# Altium footprint library Fancy.PcbLib: 140 footprints (part 8 of 9)
Each footprint in its own frame and in the unit in brackets; x right, y up, seen from the top. Pads: shape width x height; smd on the part's side, far side on the other; paste and mask are expansions set on the pad; w line width, h text height; cw(c..) or ccw(c..) is an arc to the next point about the centre after c.
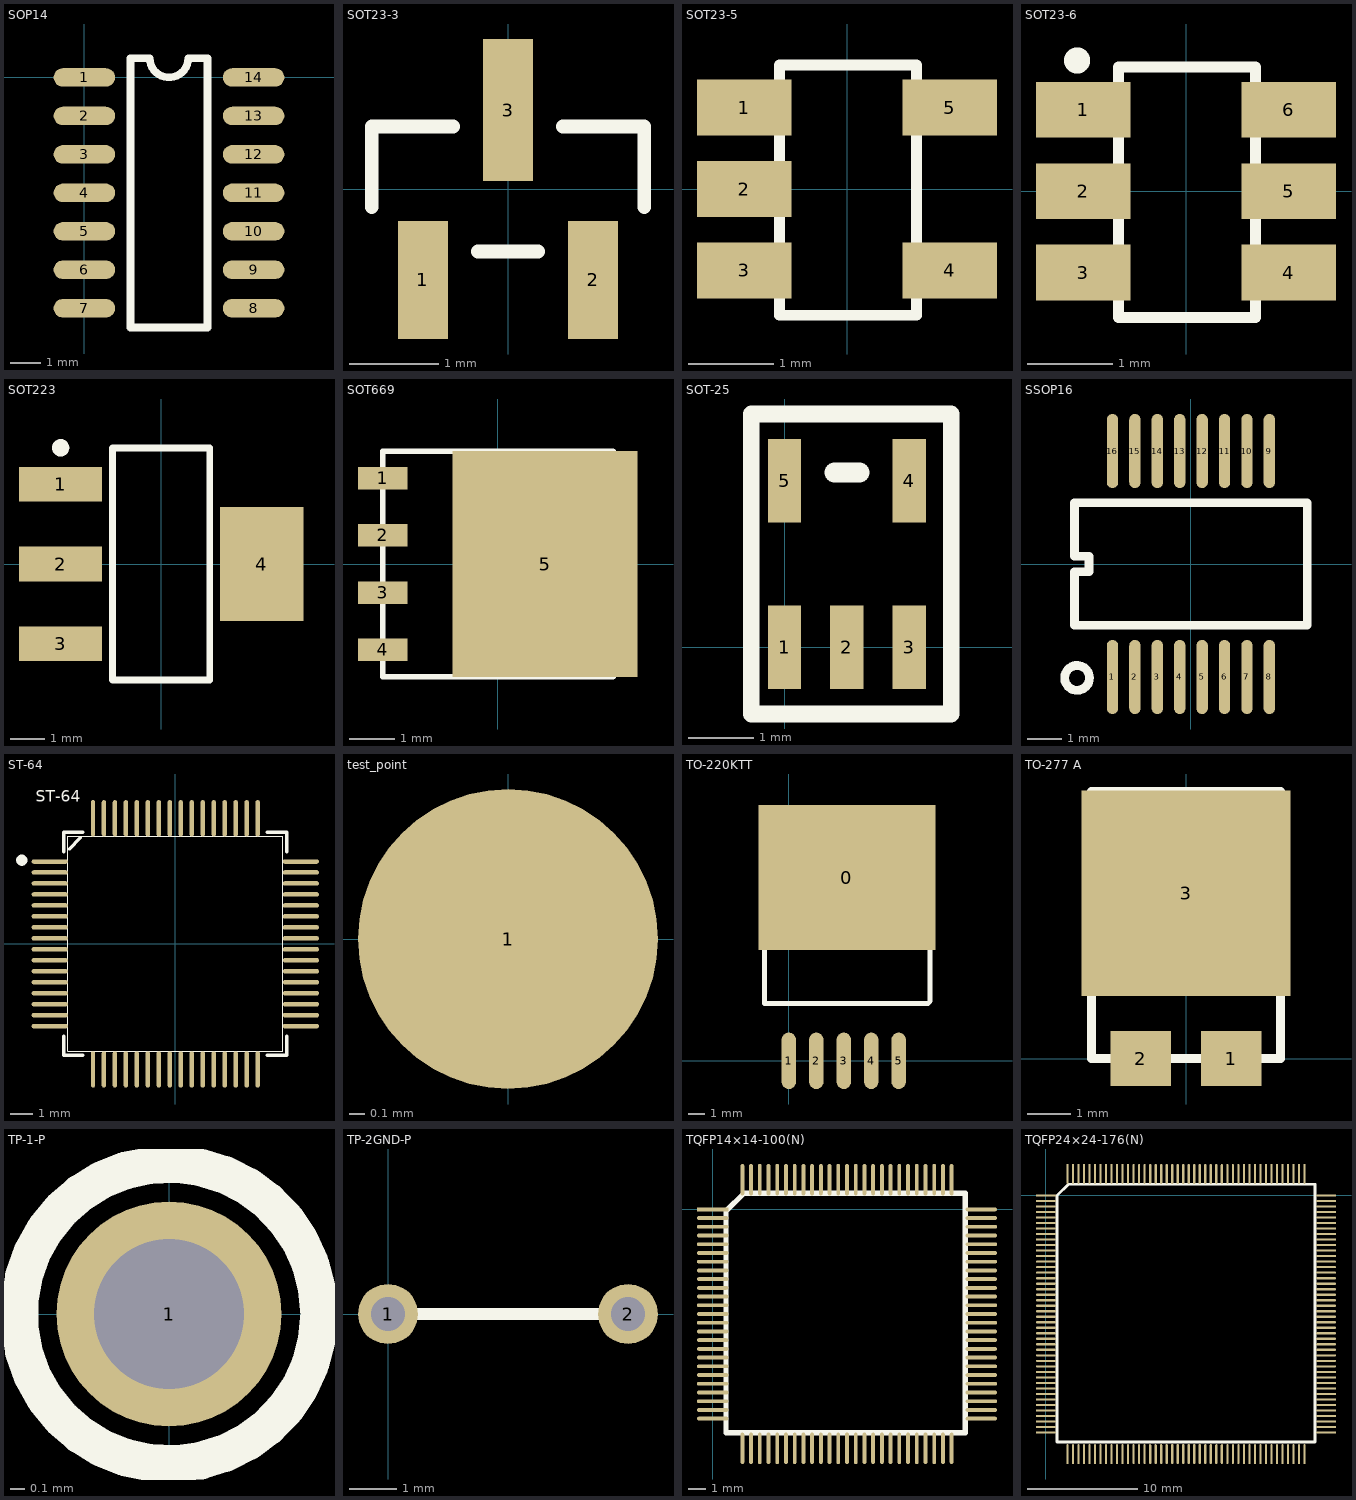
[diagram p7: the footprints below, top view; thin cyan lines are the x and y axes]

## SOP14 [mil]
pads (14):
  oval 80x24 smd: 1(0,0) 2(0,-50) 3(0,-100) 4(0,-150) 5(0,-200) 6(0,-250) 7(0,-300) 8(220,-300) 9(220,-250) 10(220,-200) 11(220,-150) 12(220,-100) 13(220,-50) 14(220,0)
Top Overlay:
  lines w10: 60,-325 60,25 85,25 ccw(c110,25) 135,25 160,25 160,-325 60,-325

## SOT23-3 [mil]
pads (3):
  rect 22x52 smd: 1(-37.4,-40) 2(37.4,-40)
  rect 22x62.5 smd: 3(0,34.75)
Top Overlay:
  lines w6: -60,-7.91 -60,27.5 -24.1,27.5 ; -13.3,-27.5 13.3,-27.5 ; 24.1,27.5 60,27.5 60,-7.91

## SOT23-5 [mm]
pads (5):
  rect 1.1x0.65 smd paste-0.102 mask+0.051: 1(-1.2,0.95) 2(-1.2,0) 3(-1.2,-0.95) 4(1.2,-0.95) 5(1.2,0.95)
Top Overlay:
  lines w0.127: -0.787,-1.473 -0.787,1.448 0.813,1.448 0.813,-1.473 -0.787,-1.473

## SOT23-6 [mm]
pads (6):
  rect 1.1x0.65 smd paste-0.102 mask+0.051: 1(-1.2,0.95) 2(-1.2,0) 3(-1.2,-0.95) 4(1.2,-0.95) 5(1.2,0) 6(1.2,0.95)
Top Overlay:
  circle w0.254: c-1.27,1.524 r0.025
  lines w0.127: -0.787,-1.473 -0.787,1.448 0.813,1.448 0.813,-1.473 -0.787,-1.473

## SOT223 [mm] "SOT223, 4-Leads, Body 6.5x3.5mm, Pitch 2.3mm, Lead Span 7mm, IPC Medium Density"
height 1.7
pads (4):
  rect 2.4x1 smd: 1(-2.9,2.3) 2(-2.9,0) 3(-2.9,-2.3)
  rect 2.4x3.3 smd: 4(2.9,0)
Top Overlay:
  circle w0.25: c-2.9,3.35 r0.125
  lines w0.2: -1.4,-3.35 -1.4,3.35 1.4,3.35 1.4,-3.35 -1.4,-3.35

## SOT669 [mm]
pads (5):
  rect 1.1x0.5 smd: 1(-2.55,1.905) 2(-2.55,0.635) 3(-2.55,-0.635) 4(-2.55,-1.905)
  rect 4.1x5 smd: 5(1.05,0)
Top Overlay:
  lines w0.127: -2.55,-2.5 0,-2.5 2.55,-2.5 2.55,0 2.55,2.5 0,2.5 -2.55,2.5 -2.55,0 -2.55,-2.5

## SOT-25 [mil]
pads (5):
  rect 20x50 smd: 1(0,0) 2(37.4,0) 3(74.8,0) 4(74.8,100) 5(0,100)
Top Overlay:
  lines w10: -20,-40 -20,140 100,140 100,-40 -20,-40
  lines w12: 30,105 45,105

## SSOP16 [mm]
pads (16):
  oval 0.33x2.15 smd: 1(-2.275,-3.275) 2(-1.625,-3.275) 3(-0.975,-3.275) 4(-0.325,-3.275) 5(0.325,-3.275) 6(0.975,-3.275) 7(1.625,-3.275) 8(2.275,-3.275) 9(2.275,3.275) 10(1.625,3.275) 11(0.975,3.275) 12(0.325,3.275) 13(-0.325,3.275) 14(-0.975,3.275) 15(-1.625,3.275) 16(-2.275,3.275)
Top Overlay:
  circle w0.254: c-3.302,-3.302 r0.359
  lines w0.254: -3.375,-1.775 -3.375,-0.222 -2.953,-0.222 -2.953,0.222 -3.375,0.222 -3.375,1.775 3.375,1.775 3.375,-1.775 -3.375,-1.775

## ST-64 [mil]
pads (64):
  oval 65x8 smd: 1(-224.86,147.57) 2(-224.86,127.97) 3(-224.86,108.27) 4(-224.86,88.57) 5(-224.86,68.87) 6(-224.86,49.17) 7(-224.86,29.47) 8(-224.86,9.77) 9(-224.86,-9.83) 10(-224.86,-29.53) 11(-224.86,-49.23) 12(-224.86,-68.93) 13(-224.86,-88.63) 14(-224.86,-108.33) 15(-224.86,-128.03) 16(-224.86,-147.63) 33(225.54,-147.63) 34(225.54,-128.03) 35(225.54,-108.33) 36(225.54,-88.63) 37(225.54,-68.93) 38(225.54,-49.23) 39(225.54,-29.53) 40(225.54,-9.83) 41(225.54,9.77) 42(225.54,29.47) 43(225.54,49.17) 44(225.54,68.87) 45(225.54,88.57) 46(225.54,108.27) 47(225.54,127.97) 48(225.54,147.57)
  oval 8x65 smd: 17(-147.26,-225.23) 18(-127.66,-225.23) 19(-107.96,-225.23) 20(-88.26,-225.23) 21(-68.56,-225.23) 22(-48.86,-225.23) 23(-29.16,-225.23) 24(-9.46,-225.23) 25(10.14,-225.23) 26(29.84,-225.23) 27(49.54,-225.23) 28(69.24,-225.23) 29(88.94,-225.23) 30(108.64,-225.23) 31(128.34,-225.23) 32(147.94,-225.23) 49(147.94,225.17) 50(128.34,225.17) 51(108.64,225.17) 52(88.94,225.17) 53(69.24,225.17) 54(49.54,225.17) 55(29.84,225.17) 56(10.14,225.17) 57(-9.46,225.17) 58(-29.16,225.17) 59(-48.86,225.17) 60(-68.56,225.17) 61(-88.26,225.17) 62(-107.96,225.17) 63(-127.66,225.17) 64(-147.26,225.17)
Top Overlay:
  circle w10: c-275,150 r5
  lines w0.4: -192.56,-192.93 193.24,-192.93 193.24,192.87 -192.56,192.87 -192.56,-192.93
  lines w6: -200,-165.24 -200,-200 -165.24,-200 ; -200,165 -200,199.76 ; -200,200 -165.24,200 ; -190,170 -170,190 ; 165,-200 199.76,-200 ; 165.24,200 200,200 ; 200,-200 200,-165.24 ; 200,165 200,199.76
  text "ST-64" at -250,255 h20

## test_point [mm]
pads (1):
  round 2 all layers, no hole: 1(0,0)

## TO-220KTT [mm]
pads (6):
  rect 11x9 smd: 0(3.604,11.361)
  oval 0.9x3.5 smd: 1(0,0) 2(1.7,0) 3(3.41,0)
  oval 0.89x3.5 smd: 4(5.11,0) 5(6.81,0)
Top Overlay:
  lines w0.305: -1.524,3.556 8.622,3.556 8.766,3.7 8.766,12.178 -1.524,12.178 -1.524,3.556

## TO-277 A [mm]
height 1.7
pads (3):
  rect 1.4x1.27 smd: 1(1.04,0) 2(-1.04,0)
  rect 4.8x4.72 smd: 3(0,3.8)
Top Overlay:
  lines w0.2: -2.175,0 -2.175,6.15 2.175,6.15 2.175,0 -2.175,0

## TP-1-P [mil]
pads (1):
  round 60 hole 40: 1(0,0)
Top Overlay:
  circle w10: c0,0 r40

## TP-2GND-P [mil]
pads (2):
  round 50 hole 28: 1(0,0) 2(200,0)
Top Overlay:
  lines w10: 0,0 200,0

## TQFP14×14-100(N) [mm]
pads (100):
  rect 1.8x0.22 smd: 1(0,0)
  oval 1.8x0.22 smd: 2(0,-0.5) 3(0,-1) 4(0,-1.5) 5(0,-2) 6(0,-2.5) 7(0,-3) 8(0,-3.5) 9(0,-4) 10(0,-4.5) 11(0,-5) 12(0,-5.5) 13(0,-6) 14(0,-6.5) 15(0,-7) 16(0,-7.5) 17(0,-8) 18(0,-8.5) 19(0,-9) 20(0,-9.5) 21(0,-10) 22(0,-10.5) 23(0,-11) 24(0,-11.5) 25(0,-12) 51(15.4,-12) 52(15.4,-11.5) 53(15.4,-11) 54(15.4,-10.5) 55(15.4,-10) 56(15.4,-9.5) 57(15.4,-9) 58(15.4,-8.5) 59(15.4,-8) 60(15.4,-7.5) 61(15.4,-7) 62(15.4,-6.5) 63(15.4,-6) 64(15.4,-5.5) 65(15.4,-5) 66(15.4,-4.5) 67(15.4,-4) 68(15.4,-3.5) 69(15.4,-3) 70(15.4,-2.5) 71(15.4,-2) 72(15.4,-1.5) 73(15.4,-1) 74(15.4,-0.5) 75(15.4,0)
  oval 0.22x1.8 smd: 26(1.7,-13.7) 27(2.2,-13.7) 28(2.7,-13.7) 29(3.2,-13.7) 30(3.7,-13.7) 31(4.2,-13.7) 32(4.7,-13.7) 33(5.2,-13.7) 34(5.7,-13.7) 35(6.2,-13.7) 36(6.7,-13.7) 37(7.2,-13.7) 38(7.7,-13.7) 39(8.2,-13.7) 40(8.7,-13.7) 41(9.2,-13.7) 42(9.7,-13.7) 43(10.2,-13.7) 44(10.7,-13.7) 45(11.2,-13.7) 46(11.7,-13.7) 47(12.2,-13.7) 48(12.7,-13.7) 49(13.2,-13.7) 50(13.7,-13.7) 76(13.7,1.7) 77(13.2,1.7) 78(12.7,1.7) 79(12.2,1.7) 80(11.7,1.7) 81(11.2,1.7) 82(10.7,1.7) 83(10.2,1.7) 84(9.7,1.7) 85(9.2,1.7) 86(8.7,1.7) 87(8.2,1.7) 88(7.7,1.7) 89(7.2,1.7) 90(6.7,1.7) 91(6.2,1.7) 92(5.7,1.7) 93(5.2,1.7) 94(4.7,1.7) 95(4.2,1.7) 96(3.7,1.7) 97(3.2,1.7) 98(2.7,1.7) 99(2.2,1.7) 100(1.7,1.7)
Top Overlay:
  lines w0.305: 0.762,-12.802 0.762,-0.102 1.778,0.914 14.478,0.914 14.478,-12.802 0.762,-12.802

## TQFP24×24-176(N) [mm]
pads (176):
  rect 1.8x0.2 smd: 1(0,0)
  oval 1.8x0.2 smd: 2(0,-0.5) 3(0,-1) 4(0,-1.5) 5(0,-2) 6(0,-2.5) 7(0,-3) 8(0,-3.5) 9(0,-4) 10(0,-4.5) 11(0,-5) 12(0,-5.5) 13(0,-6) 14(0,-6.5) 15(0,-7) 16(0,-7.5) 17(0,-8) 18(0,-8.5) 19(0,-9) 20(0,-9.5) 21(0,-10) 22(0,-10.5) 23(0,-11) 24(0,-11.5) 25(0,-12) 26(0,-12.5) 27(0,-13) 28(0,-13.5) 29(0,-14) 30(0,-14.5) 31(0,-15) 32(0,-15.5) 33(0,-16) 34(0,-16.5) 35(0,-17) 36(0,-17.5) 37(0,-18) 38(0,-18.5) 39(0,-19) 40(0,-19.5) 41(0,-20) 42(0,-20.5) 43(0,-21) 44(0,-21.5) 89(25.4,-21.5) 90(25.4,-21) 91(25.4,-20.5) 92(25.4,-20) 93(25.4,-19.5) 94(25.4,-19) 95(25.4,-18.5) 96(25.4,-18) 97(25.4,-17.5) 98(25.4,-17) 99(25.4,-16.5) 100(25.4,-16) 101(25.4,-15.5) 102(25.4,-15) 103(25.4,-14.5) 104(25.4,-14) 105(25.4,-13.5) 106(25.4,-13) 107(25.4,-12.5) 108(25.4,-12) 109(25.4,-11.5) 110(25.4,-11) 111(25.4,-10.5) 112(25.4,-10) 113(25.4,-9.5) 114(25.4,-9) 115(25.4,-8.5) 116(25.4,-8) 117(25.4,-7.5) 118(25.4,-7) 119(25.4,-6.5) 120(25.4,-6) 121(25.4,-5.5) 122(25.4,-5) 123(25.4,-4.5) 124(25.4,-4) 125(25.4,-3.5) 126(25.4,-3) 127(25.4,-2.5) 128(25.4,-2) 129(25.4,-1.5) 130(25.4,-1) 131(25.4,-0.5) 132(25.4,0)
  oval 0.2x1.8 smd: 45(1.95,-23.45) 46(2.45,-23.45) 47(2.95,-23.45) 48(3.45,-23.45) 49(3.95,-23.45) 50(4.45,-23.45) 51(4.95,-23.45) 52(5.45,-23.45) 53(5.95,-23.45) 54(6.45,-23.45) 55(6.95,-23.45) 56(7.45,-23.45) 57(7.95,-23.45) 58(8.45,-23.45) 59(8.95,-23.45) 60(9.45,-23.45) 61(9.95,-23.45) 62(10.45,-23.45) 63(10.95,-23.45) 64(11.45,-23.45) 65(11.95,-23.45) 66(12.45,-23.45) 67(12.95,-23.45) 68(13.45,-23.45) 69(13.95,-23.45) 70(14.45,-23.45) 71(14.95,-23.45) 72(15.45,-23.45) 73(15.95,-23.45) 74(16.45,-23.45) 75(16.95,-23.45) 76(17.45,-23.45) 77(17.95,-23.45) 78(18.45,-23.45) 79(18.95,-23.45) 80(19.45,-23.45) 81(19.95,-23.45) 82(20.45,-23.45) 83(20.95,-23.45) 84(21.45,-23.45) 85(21.95,-23.45) 86(22.45,-23.45) 87(22.95,-23.45) 88(23.45,-23.45) 133(23.45,1.95) 134(22.95,1.95) 135(22.45,1.95) 136(21.95,1.95) 137(21.45,1.95) 138(20.95,1.95) 139(20.45,1.95) 140(19.95,1.95) 141(19.45,1.95) 142(18.95,1.95) 143(18.45,1.95) 144(17.95,1.95) 145(17.45,1.95) 146(16.95,1.95) 147(16.45,1.95) 148(15.95,1.95) 149(15.45,1.95) 150(14.95,1.95) 151(14.45,1.95) 152(13.95,1.95) 153(13.45,1.95) 154(12.95,1.95) 155(12.45,1.95) 156(11.95,1.95) 157(11.45,1.95) 158(10.95,1.95) 159(10.45,1.95) 160(9.95,1.95) 161(9.45,1.95) 162(8.95,1.95) 163(8.45,1.95) 164(7.95,1.95) 165(7.45,1.95) 166(6.95,1.95) 167(6.45,1.95) 168(5.95,1.95) 169(5.45,1.95) 170(4.95,1.95) 171(4.45,1.95) 172(3.95,1.95) 173(3.45,1.95) 174(2.95,1.95) 175(2.45,1.95) 176(1.95,1.95)
Top Overlay:
  lines w0.254: 1.016,-22.352 24.384,-22.352 24.384,1.016 2.032,1.016 1.016,0 1.016,-22.352